# Altium integrated library 20021321.IntLib: 3 symbols
Pins are listed as number, name and electrical type; pins without a type are passive.

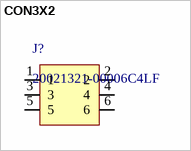
[diagram p0: symbol CON3X2]

## CON3X2
designator J?, comment 20021321-00006C4LF
PDF: http://portal.fciconnect.com/Comergent//fci/drawing/20021321.pdf; BUY_LINK: http://www.digikey.com/product-detail/en/20021321-00006C4LF/609-3704-1-ND/2209148; PRICE: 0.63000; ID: 20021321-00006C4LF
footprint 20021321-00006C4LF
pins: 1, 2, 3, 4, 5, 6


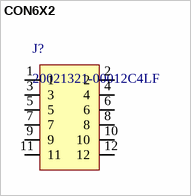
[diagram p1: symbol CON6X2]

## CON6X2
designator J?, comment 20021321-00012C4LF
PDF: http://portal.fciconnect.com/Comergent//fci/drawing/20021321.pdf; BUY_LINK: http://www.digikey.com/product-detail/en/20021321-00012C4LF/609-3707-1-ND/2209153; PRICE: 1.15000; ID: 20021321-00012C4LF
footprint 20021321-00012C4LF
pins: 1, 2, 3, 4, 5, 6, 7, 8, 9, 10, 11, 12


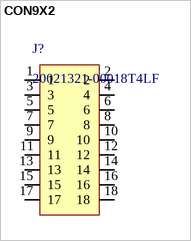
[diagram p2: symbol CON9X2]

## CON9X2
designator J?, comment 20021321-00018T4LF
PDF: http://portal.fciconnect.com/Comergent//fci/drawing/20021321.pdf; BUY_LINK: http://www.digikey.com/product-search/en?vendor=0&keywords=20021321-00018T4LF; PRICE: 0.75690; ID: 20021321-00018T4LF
footprint 20021321-00018T4LF
pins: 1, 2, 3, 4, 5, 6, 7, 8, 9, 10, 11, 12, 13, 14, 15, 16, 17, 18